# EAGLE library part PIC18F16Q41-I/P (library mcu)
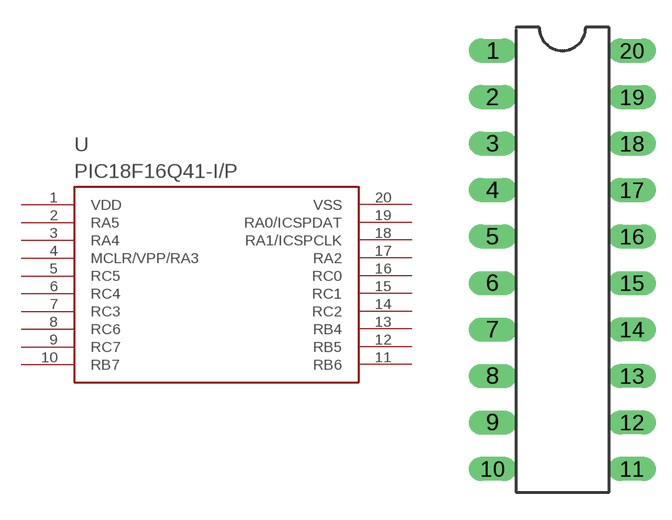
[diagram p9: symbol with the pads of DIL20-3/V; footprint DIL20-3/V]

Designator prefix -

## PIC18F16Q41-I/P  [DIL20-3/V]
1  VDD  pas
2  RA5  pas
3  RA4  pas
4  MCLR/VPP/RA3  pas
5  RC5  pas
6  RC4  pas
7  RC3  pas
8  RC6  pas
9  RC7  pas
10  RB7  pas
11  RB6  pas
12  RB5  pas
13  RB4  pas
14  RC2  pas
15  RC1  pas
16  RC0  pas
17  RA2  pas
18  RA1/ICSPCLK  pas
19  RA0/ICSPDAT  pas
20  VSS  pas

## Footprint DIL20-3/V (pad centres in mm)
drill 0.813 long: 1 -3.81,8.89; 2 -3.81,6.35; 3 -3.81,3.81; 4 -3.81,1.27; 5 -3.81,-1.27; 6 -3.81,-3.81; 7 -3.81,-6.35; 8 -3.81,-8.89; 9 -3.81,-11.43; 10 -3.81,-13.97; 11 3.81,-13.97; 12 3.81,-11.43; 13 3.81,-8.89; 14 3.81,-6.35; 15 3.81,-3.81; 16 3.81,-1.27; 17 3.81,1.27; 18 3.81,3.81; 19 3.81,6.35; 20 3.81,8.89